# Altium footprint library PcbLib_Antenna.PcbLib: 7 footprints
Each footprint in its own frame and in the unit in brackets; x right, y up, seen from the top. Pads: shape width x height; smd on the part's side, far side on the other; paste and mask are expansions set on the pad; w line width, h text height; cw(c..) or ccw(c..) is an arc to the next point about the centre after c.
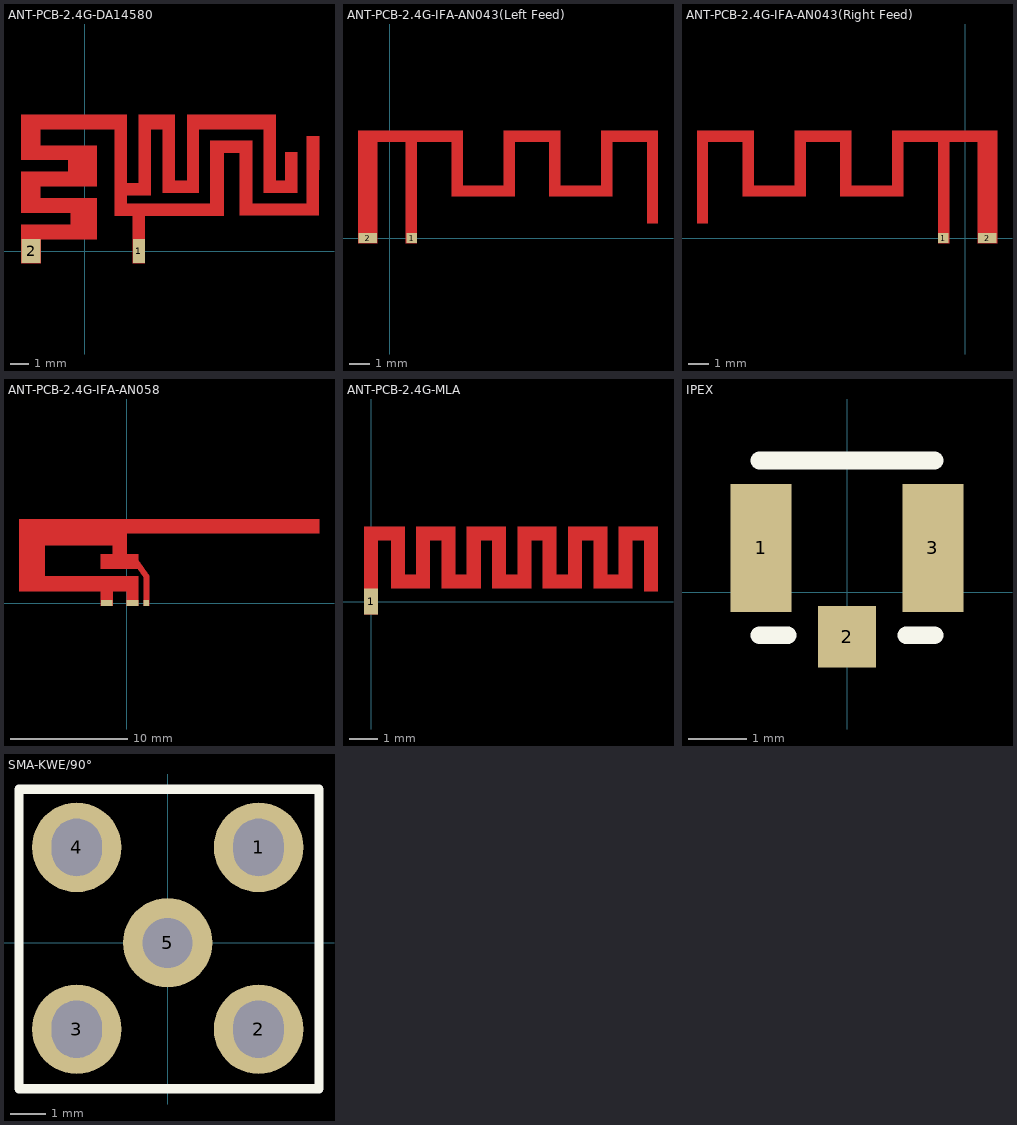
[diagram p0: the footprints below, top view; thin cyan lines are the x and y axes]

## ANT-PCB-2.4G-DA14580 [mm] "DA14580 15x7 Renesas"
height 7.62
pads (2):
  rect 0.63x1.27 smd: 1(2.854,0)
  rect 1.02x1.27 smd: 2(-2.854,0)
Top Layer:
  region: -3.364,0.635 0.626,0.635 -2.344,0.635
  region: -3.364,0.635 -3.364,1.395 0.626,1.395 0.626,0.635
  region: -3.364,1.395 -0.764,1.395 0.626,1.395
  region: 2.506,1.865 7.326,1.865 3.136,1.865
  region: 2.506,1.865 1.586,1.865 7.326,1.865
  region: 12.376,1.885 8.196,1.885 12.376,1.885
  region: -0.764,1.395 -0.764,2.025 0.626,2.025 0.626,1.395
  region: -0.764,2.025 -3.374,2.025 0.626,2.025
  region: 1.586,1.865 1.586,2.505 7.326,2.505 7.326,1.865
  region: 8.196,1.885 8.196,2.505 12.376,2.505 12.376,1.885
  region: 2.216,2.505 6.626,2.505 7.326,2.505
  region: 8.846,2.505 11.736,2.505 12.376,2.505
  region: -3.374,2.025 -3.374,2.795 0.626,2.795 0.626,2.025
  region: -3.374,2.795 -2.354,2.795 0.626,2.795
  region: 1.586,2.505 1.586,2.945 2.216,2.945 2.216,2.505
  region: 1.586,2.945 3.486,2.945 2.216,2.945
  region: 6.026,3.075 4.126,3.075 6.026,3.075
  region: 11.236,3.075 9.456,3.075 11.236,3.075
  region: -3.374,2.795 -3.374,3.425 -2.354,3.425 -2.354,2.795
  region: -3.374,3.425 0.626,3.425 -2.354,3.425
  region: 1.586,2.945 1.586,3.585 3.486,3.585 3.486,2.945
  region: 2.216,3.585 2.856,3.585 3.486,3.585
  region: 4.126,3.075 4.126,3.715 6.026,3.715 6.026,3.075
  region: 9.456,3.075 9.456,3.715 11.236,3.715 11.236,3.075
  region: 4.756,3.715 5.396,3.715 6.026,3.715
  region: 10.096,3.715 10.596,3.715 11.236,3.715
  region: -3.374,3.425 -3.374,4.195 0.626,4.195 0.626,3.425
  region: -3.374,4.195 -0.894,4.195 0.626,4.195
  region: -0.894,4.195 -0.894,4.825 0.626,4.825 0.626,4.195
  region: -0.894,4.825 -3.374,4.825 0.626,4.825
  region: 6.626,2.505 6.626,5.195 7.326,5.195 7.326,2.505
  region: 6.626,5.195 8.196,5.195 7.326,5.195
  region: 8.196,2.505 8.196,5.195 8.846,5.195 8.846,2.505
  region: 10.596,3.715 10.596,5.235 11.236,5.235 11.236,3.715
  region: 10.596,5.235 11.236,5.235
  region: -3.374,4.825 -3.374,5.585 0.626,5.585 0.626,4.825
  region: -3.374,5.585 -2.354,5.585 0.626,5.585
  region: 6.626,5.195 6.626,5.845 8.846,5.845 8.846,5.195
  region: 6.626,5.845 8.846,5.845
  region: 11.736,2.505 11.736,6.075 12.376,6.075 12.376,2.505
  region: 11.736,6.075 12.376,6.075
  region: -3.374,5.585 -3.374,6.445 -2.354,6.445 -2.354,5.585
  region: 2.856,3.585 2.856,6.445 3.486,6.445 3.486,3.585
  region: 5.396,3.715 5.396,6.445 6.026,6.445 6.026,3.715
  region: -3.374,6.445 1.586,6.445 -2.354,6.445
  region: 1.586,3.585 1.586,6.445 2.216,6.445 2.216,3.585
  region: 2.856,6.445 4.126,6.445 3.486,6.445
  region: 4.126,3.715 4.126,6.445 4.756,6.445 4.756,3.715
  region: 5.396,6.445 9.456,6.445 6.026,6.445
  region: 9.456,3.715 9.456,6.445 10.096,6.445 10.096,3.715
  region: -3.374,6.445 -3.374,7.205 2.216,7.205 2.216,6.445
  region: 2.856,6.445 2.856,7.205 4.756,7.205 4.756,6.445
  region: 5.396,6.445 5.396,7.205 10.096,7.205 10.096,6.445
  region: -3.374,7.205 2.216,7.205
  region: 2.856,7.205 4.756,7.205
  region: 5.396,7.205 10.096,7.205
  region: 2.539,-0.635 2.539,1.865 3.169,1.865 3.169,-0.635
  region: -2.344,0.635 -2.344,-0.63 -3.364,-0.63 -3.364,0.635

## ANT-PCB-2.4G-IFA-AN043(Left Feed) [mm] "COMPACT 14x5 TI-ORIGIN"
height 7.62
pads (2):
  rect 0.5x0.5 smd: 1(1.05,0)
  rect 0.9x0.5 smd: 2(-1.05,0)
Top Layer:
  region: -1.525,5.165 -1.525,-0.25 -0.6,-0.25 -0.6,4.64 0.774,4.64 0.774,-0.25 1.3,-0.25 1.3,4.64 2.975,4.64 2.975,2 6,2 6,4.64 7.674,4.64 7.674,2 10.7,2 10.7,4.64 12.374,4.64 12.375,4.64 12.374,4.64 12.374,0.7 12.9,0.7 12.9,0.715 12.9,0.716 12.9,5.163 12.898,5.165 10.175,5.165 10.175,2.525 8.2,2.525 8.2,5.165 5.475,5.165 5.475,2.525 3.5,2.525 3.5,5.165

## ANT-PCB-2.4G-IFA-AN043(Right Feed) [mm] "COMPACT 14x5 TI-ORIGIN"
height 7.62
pads (2):
  rect 0.5x0.5 smd: 1(-1.05,0)
  rect 0.9x0.5 smd: 2(1.05,0)
Top Layer:
  region: 1.525,5.165 1.525,-0.25 0.6,-0.25 0.6,4.64 -0.774,4.64 -0.774,-0.25 -1.3,-0.25 -1.3,4.64 -2.975,4.64 -2.975,2 -6,2 -6,4.64 -7.674,4.64 -7.674,2 -10.7,2 -10.7,4.64 -12.374,4.64 -12.374,0.7 -12.9,0.7 -12.9,0.715 -12.9,0.716 -12.9,5.163 -12.898,5.165 -10.175,5.165 -10.175,2.525 -8.2,2.525 -8.2,5.165 -5.475,5.165 -5.475,2.525 -3.5,2.525 -3.5,5.165

## ANT-PCB-2.4G-IFA-AN058 [mm] "WIDEBAND 25x7 TI-ORIGIN"
height 7.62
pads (3):
  rect 0.46x0.5 smd: 1(1.69,0)
  rect 1x0.5 smd: 2(-1.69,0) 2(0.51,0)
Top Layer:
  region: -9.17,0.99 -9.17,7.16 16.41,7.16 16.41,5.95 0.01,5.95 0.01,4.15 1.01,4.15 1.01,3.648 1.92,2.328 1.92,-0.25 1.46,-0.25 1.46,2.185 0.939,2.94 -2.19,2.94 -2.19,4.15 -1.19,4.15 -1.19,4.95 -6.99,4.95 -6.99,2.28 1.01,2.28 1.01,-0.25 0.01,-0.25 0.01,0.99 -1.19,0.99 -1.19,-0.25 -2.19,-0.25 -2.19,0.99

## ANT-PCB-2.4G-MLA [mm] "Meander Line Antenna 20x4 6T"
height 7.62
pads (1):
  rect 0.5x0.932 smd: 1(0,0)
Top Layer:
  region: 3.9,2.666 3.4,2.666 3.4,0.466 3.9,0.466
  region: 8.8,2.666 8.8,2.166 10.2,2.166 10.2,2.666
  region: 7,2.666 7,2.166 8.4,2.166 8.4,2.666
  region: 9.3,2.666 8.8,2.666 8.8,0.466 9.3,0.466
  region: 8.4,2.666 7.9,2.666 7.9,0.466 8.4,0.466
  region: 7.5,2.666 7,2.666 7,0.466 7.5,0.466
  region: 5.2,2.666 5.2,2.166 6.6,2.166 6.6,2.666
  region: 6.6,2.666 6.1,2.666 6.1,0.466 6.6,0.466
  region: 3.4,2.666 3.4,2.166 4.8,2.166 4.8,2.666
  region: 10.2,2.666 9.7,2.666 9.7,0.366 10.2,0.366
  region: 5.7,2.666 5.2,2.666 5.2,0.466 5.7,0.466
  region: 7.9,0.966 7.9,0.466 9.3,0.466 9.3,0.966
  region: 6.1,0.966 6.1,0.466 7.5,0.466 7.5,0.966
  region: 4.8,2.666 4.3,2.666 4.3,0.466 4.8,0.466
  region: 4.3,0.966 4.3,0.466 5.7,0.466 5.7,0.966
  region: 1.6,2.666 1.6,2.166 3,2.166 3,2.666
  region: 2.1,2.666 1.6,2.666 1.6,0.466 2.1,0.466
  region: 2.5,0.966 2.5,0.466 3.9,0.466 3.9,0.966
  region: 3,2.666 2.5,2.666 2.5,0.466 3,0.466
  region: 1.2,2.666 0.7,2.666 0.7,0.466 1.2,0.466
  region: 0.7,0.966 0.7,0.466 2.1,0.466 2.1,0.966
  region: -0.25,2.666 -0.25,2.166 1.2,2.166 1.2,2.666
  rectangle: -0.25,-0.466 0.25,2.666

## IPEX [mm]
pads (3):
  rect 1.05x2.2 smd: 1(-1.475,0.763) 3(1.475,0.763)
  rect 1x1.05 smd: 2(0,-0.763)
Top Overlay:
  lines w0.305: -1.5,-0.737 -1.016,-0.737 ; 1.016,-0.737 1.5,-0.737 ; -1.5,2.262 1.5,2.262 0,2.262 -1.5,2.262
3D body "IPEX.STEP": height 1.25, standoff -0.01, extent -1.451,-0.787 1.549,2.313

## SMA-KWE/90° [mm]
pads (5):
  round 2.5 hole 1.4 slot 1.6 at 90 deg: 1(2.54,2.667) 2(2.54,-2.413) 3(-2.54,-2.413) 4(-2.54,2.667)
  round 2.5 hole 1.4: 5(0,0)
Top Overlay:
  lines w0.254: -4.153,-4.077 -4.153,4.293 4.229,4.293 4.229,-4.077 -4.153,-4.077
3D body "天线插座SMA-J-P-H": height 9.86, standoff -4.24, extent -3.5,-3.5 3.5,11.6